# Altium footprint library PCB - DIODES - DIOM7959X262N.PCBLIB: 1 footprints
Each footprint in its own frame and in the unit in brackets; x right, y up, seen from the top. Pads: shape width x height; smd on the part's side, far side on the other; paste and mask are expansions set on the pad; w line width, h text height; cw(c..) or ccw(c..) is an arc to the next point about the centre after c.
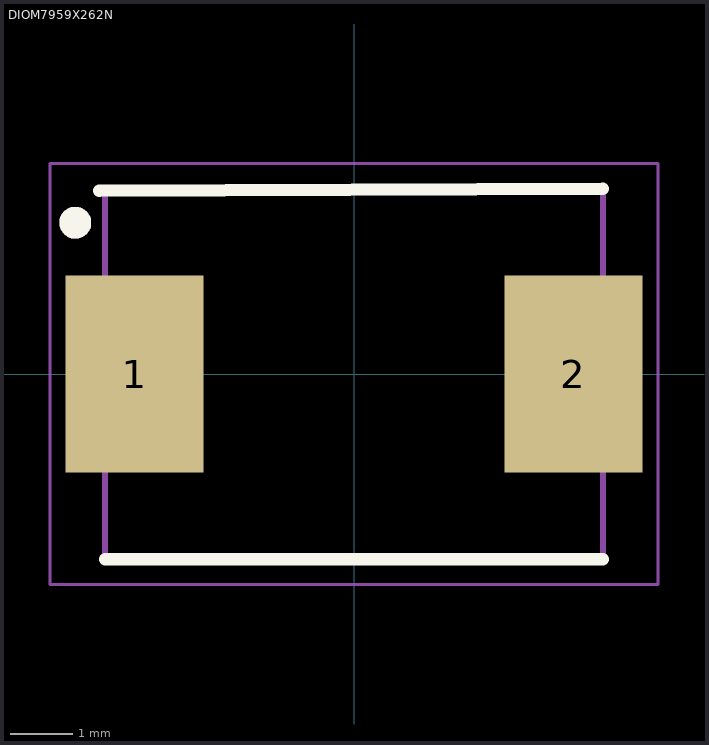
[diagram p0: the footprint, top view; thin cyan lines are the x and y axes]

## DIOM7959X262N [mm]
pads (2):
  rect 2.2x3.15 smd: 1(-3.5,0) 2(3.5,0)
Top Overlay:
  circle w0.254: c-4.445,2.413 r0.127
  lines w0.2: -4.064,2.921 3.97,2.952 ; -3.97,-2.952 3.97,-2.952
Top Assembly:
  lines w0.1: -3.97,-2.952 3.97,-2.952 3.97,2.952 -3.97,2.952 -3.97,-2.952
Top Courtyard:
  lines w0.05: -4.85,-3.36 -4.85,3.36 4.85,3.36 4.85,-3.36 -4.85,-3.36
Top Designator:
  circle w0.254: c-4.445,2.413 r0.127
  text ".Designator" at -4.699,5.08 h1
Top Value (Mech13):
  text ".Comment" at -4.699,3.937 h1
3D body "5.0SMDJ24AS.stp": height 2.62, standoff 0, extent -3.97,-2.952 3.97,2.953